# Altium schematic symbol library ACM70V.Schlib: 1 symbol
Pins are listed as number, name and electrical type; pins without a type are passive.

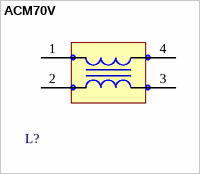
[diagram p0: symbol ACM70V]

## ACM70V
designator L?
pins: 1, 2, 3, 4